# EAGLE library part 740-109/000-004 (library con-wago_740)
Stand: 01.01.2014. Die jeweils aktuellen Daten zu diesem Artikel finden Sie in unserem Produktkatalog, den Sie unter www.wago.com einsehen können. As of: 01/01/2014. Please find the newest data for this article in our product catalogue, which can be viewed under www.wago.com.
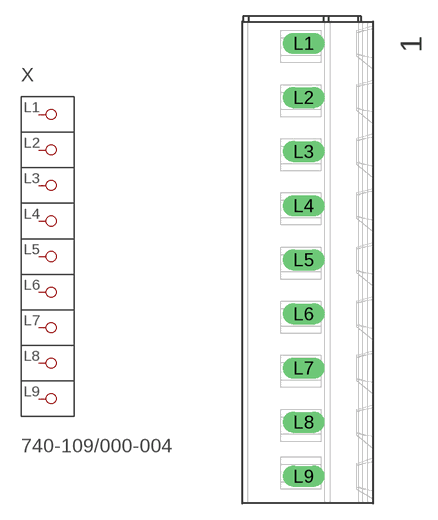
[diagram p11: symbol with the pads of P-740-109; footprint P-740-109]

Designator prefix X

## 740-109/000-004  [P-740-109]
L1  P1
L2  P2
L3  P3
L4  P4
L5  P5
L6  P6
L7  P7
L8  P8
L9  P9

## Footprint P-740-109 (pad centres in mm)
drill 1.3 long: L1 -0.35,20; L2 -0.35,15; L3 -0.35,10; L4 -0.35,5; L5 -0.35,0; L6 -0.35,-5; L7 -0.35,-10; L8 -0.35,-15; L9 -0.35,-20